# EAGLE library part ESP32_DEVC_MIN_RIGHT (library eclibrary)
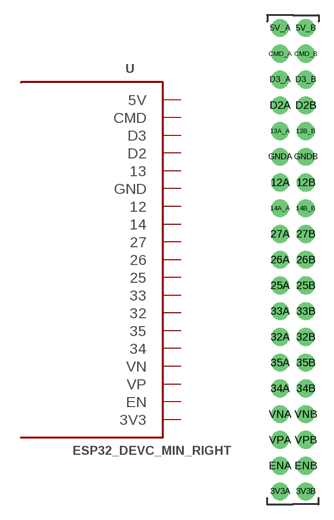
[diagram p1: symbol with the pads of ESP32_DEVC_DUAL_HEADER_BOT_MOUNT_RIGHT; footprint ESP32_DEVC_DUAL_HEADER_BOT_MOUNT_RIGHT]

Designator prefix -

## ESP32_DEVC_MIN_RIGHT  [ESP32_DEVC_DUAL_HEADER_BOT_MOUNT_RIGHT]
3V3A  3V3  pwr
3V3B  3V3  pwr
5V_A  5V  pwr
5V_B  5V  pwr
12A  12
12B  12
13A_A  13
13B_B  13
14A_A  14
14B_B  14
25A  25
25B  25
26A  26
26B  26
27A  27
27B  27
32A  32
32B  32
33A  33
33B  33
34A  34
34B  34
35A  35
35B  35
CMD_A  CMD
CMD_B  CMD
D2A  D2
D2B  D2
D3_A  D3
D3_B  D3
ENA  EN
ENB  EN
GNDA  GND  pwr
GNDB  GND  pwr
VNA  VN
VNB  VN
VPA  VP
VPB  VP

## Footprint ESP32_DEVC_DUAL_HEADER_BOT_MOUNT_RIGHT (pad centres in mm)
drill 1.016 pad 1.753: 3V3A -1.27,-24.13; 3V3B 1.27,-24.13; 5V_A -1.27,21.59; 5V_B 1.27,21.59; 12A -1.27,6.35; 12B 1.27,6.35; 13A_A -1.27,11.43; 13B_B 1.27,11.43; 14A_A -1.27,3.81; 14B_B 1.27,3.81; 25A -1.27,-3.81; 25B 1.27,-3.81; 26A -1.27,-1.27; 26B 1.27,-1.27; 27A -1.27,1.27; 27B 1.27,1.27; 32A -1.27,-8.89; 32B 1.27,-8.89; 33A -1.27,-6.35; 33B 1.27,-6.35; 34A -1.27,-13.97; 34B 1.27,-13.97; 35A -1.27,-11.43; 35B 1.27,-11.43; CMD_A -1.27,19.05; CMD_B 1.27,19.05; D2A -1.27,13.97; D2B 1.27,13.97; D3_A -1.27,16.51; D3_B 1.27,16.51; ENA -1.27,-21.59; ENB 1.27,-21.59; GNDA -1.27,8.89; GNDB 1.27,8.89; VNA -1.27,-16.51; VNB 1.27,-16.51; VPA -1.27,-19.05; VPB 1.27,-19.05